# EAGLE library part DX07S016JA1R1500 (library MStar-WLAN)
USB-C (USB TYPE-C) USB 2.0 Receptacle Connector 24 (16+8 Dummy) Position Surface Mount, Right Angle; Through Hole Check prices <https://pricing.snapeda.com/parts/DX07S016JA1R1500/JAE%20Electronics/view-part?ref=eda>
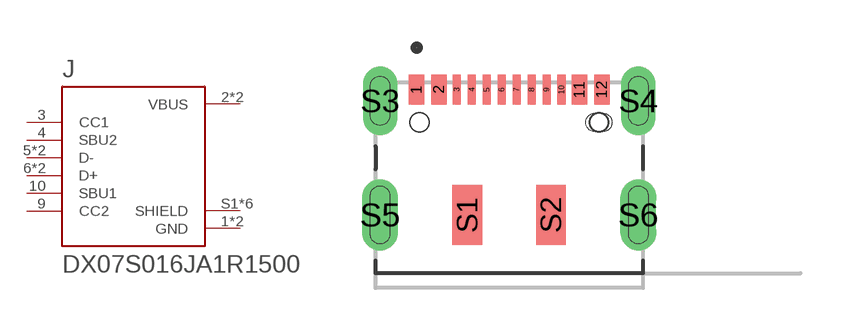
[diagram p10: symbol with the pads of JAE_DX07S016JA1R1500; footprint JAE_DX07S016JA1R1500]

Designator prefix J

## DX07S016JA1R1500 (AVAILABILITY: Warning; DESCRIPTION: USB-C (USB TYPE-C) USB 2.0 Receptacle Connector 24 (16+8 Dummy) Position Surface Mount, Right Angle; Through Hole; MF: JAE Electronics; MP: DX07S016JA1R1500; PACKAGE: None; PRICE: None; PURCHASE-URL: https://pricing.snapeda.com/search/part/DX07S016JA1R1500/?ref=eda)  [JAE_DX07S016JA1R1500]
1  GND  pwr
2  VBUS  pwr
3  CC1  pas
4  SBU2  pas
5  D-  pas
6  D+  pas
7  D+  pas
8  D-  pas
9  CC2  pas
10  SBU1  pas
11  VBUS  pwr
12  GND  pwr
S1  SHIELD  pas
S2  SHIELD  pas
S3  SHIELD  pas
S4  SHIELD  pas
S5  SHIELD  pas
S6  SHIELD  pas

## Footprint JAE_DX07S016JA1R1500 (pad centres in mm)
smd 0.52 x 1: 1 -3.1,1.1; 2 -2.35,1.1; 11 2.35,1.1; 12 3.1,1.1
smd 0.27 x 1: 3 -1.75,1.1; 4 -1.25,1.1; 5 -0.75,1.1; 6 -0.25,1.1; 7 0.25,1.1; 8 0.75,1.1; 9 1.25,1.1; 10 1.75,1.1
smd 1 x 2: S1 -1.4,-3.1; S2 1.4,-3.1
drill 0.65 long: S3 -4.32,0.725; S4 4.32,0.725
drill 0.65 pad 1.2 long: S5 -4.32,-3.1; S6 4.32,-3.1
hole 0.6 at 3,0
hole 0.63 at 3,0
hole 0.63 at -3,0